# EAGLE library part TCAN332DR (library TCAN332DR)
Check availability <https://pricing.snapeda.com/parts/TCAN332DR/Texas%20Instruments/view-part?ref=eda>
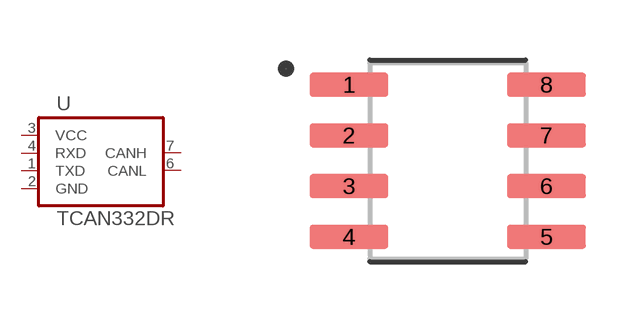
[diagram p0: symbol with the pads of SOIC127P599X175-8N; footprint SOIC127P599X175-8N]

Designator prefix U

## TCAN332DR (AVAILABILITY: In Stock; CHECK_PRICES: https://www.snapeda.com/parts/TCAN332DR/Texas+Instruments/view-part/?ref=eda; DESCRIPTION: 3.3-V CAN Transceivers; MF: Texas Instruments; MP: TCAN332DR; PACKAGE: SOIC-8 Texas Instruments; PRICE: None; PURCHASE-URL: https://www.snapeda.com/api/url_track_click_mouser/?unipart_id=381755&manufacturer=Texas Instruments&part_name=TCAN332DR&search_term=can; SNAPEDA_LINK: https://www.snapeda.com/parts/TCAN332DR/Texas+Instruments/view-part/?ref=snap)  [SOIC127P599X175-8N]
1  TXD
2  GND  pwr
3  VCC  pwr
4  RXD
6  CANL
7  CANH

## Footprint SOIC127P599X175-8N (pad centres in mm)
smd 1.97 x 0.6: 1 -2.47,1.905; 2 -2.47,0.635; 3 -2.47,-0.635; 4 -2.47,-1.905; 5 2.47,-1.905; 6 2.47,-0.635; 7 2.47,0.635; 8 2.47,1.905